# EAGLE library part ST-D4 (library trafo-siemens)
TRANSFORMER
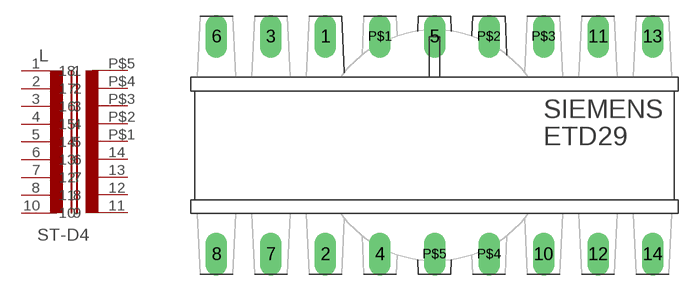
[diagram p3: symbol with the pads of ST-D4; footprint ST-D4]

Designator prefix L

## ST-D4TV  [ST-D4]
1  1
2  2
3  3
4  4
5  5
6  6
7  7
8  8
10  9
11  10
12  11
13  12
14  13
P$1  14
P$2  15
P$3  16
P$4  17
P$5  18

## Footprint ST-D4 (pad centres in mm)
TRANSFORMER
drill 1.321 long: 1 -15.24,10.16; 2 -15.24,-10.16; 3 -20.32,10.16; 4 -10.16,-10.16; 5 -5.08,10.16; 6 -25.4,10.16; 7 -20.32,-10.16; 8 -25.4,-10.16; 10 5.08,-10.16; 11 10.16,10.16; 12 10.16,-10.16; 13 15.24,10.16; 14 15.24,-10.16
drill 1.321 pad 1.981 long: P$1 -10.16,10.16; P$2 0,10.16; P$3 5.08,10.16; P$4 0,-10.16; P$5 -5.08,-10.16